# Altium schematic symbol library MyLibs_Gates.SchLib: 5 symbols
Pins are listed as number, name and electrical type; pins without a type are passive.

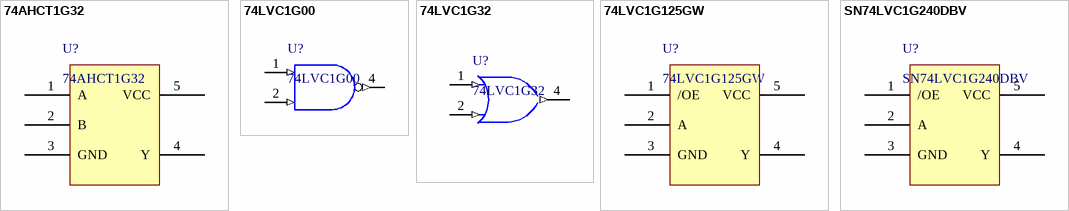
[diagram p0: symbols 74AHCT1G32 to SN74LVC1G240DBV]

## 74AHCT1G32
designator U?
SINGLE 2 INPUT POSITIVE OR GATE
pins: 1 A, 2 B, 3 GND, 4 Y, 5 VCC

## 74LVC1G00
designator U?
IC GATE NAND 1CH 2-INP 5TSOP
pins: 1 B (in), 2 A (in), 3 GND (power) hidden to GND, 4 Y (out), 5 VCC (power) hidden to VCC

## 74LVC1G32
designator U?
IC GATE OR 1CH 2-INP 5TSSOP
pins: 1 B (in), 2 A (in), 3 GND (power) hidden to GND, 4 Y (out), 5 VCC (power) hidden to VCC

## 74LVC1G125GW
designator U?
Bus buffer/line driver; 3-state. PAckage: TSSOP5
pins: 1 /OE, 2 A, 3 GND, 4 Y, 5 VCC

## SN74LVC1G240DBV
designator U?
Single Buffer/Driver With 3-State Output. Package SOT-23
pins: 1 /OE, 2 A, 3 GND, 4 Y, 5 VCC